# EAGLE library part DC-DC (library Smartcrutches)
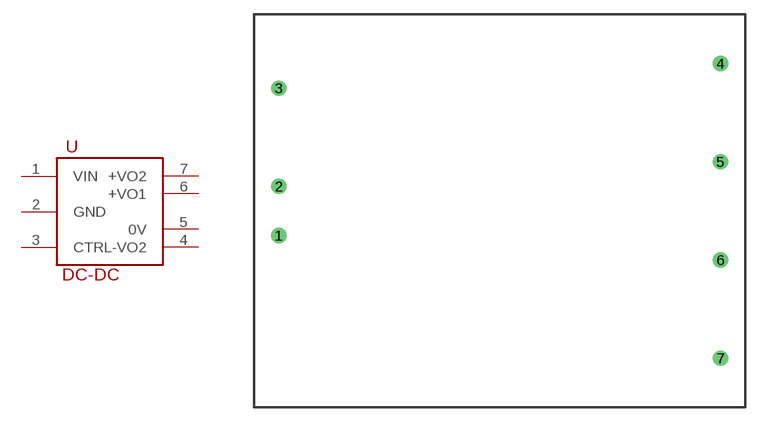
[diagram p5: symbol with the pads of DC-DCCONVERTER; footprint DC-DCCONVERTER]

Designator prefix -

## DC-DC  [DC-DCCONVERTER]
1  VIN
2  GND
3  CTRL
4  -VO2
5  0V
6  +VO1
7  +VO2

## Footprint DC-DCCONVERTER (pad centres in mm)
drill 1.05: 1 -22.86,-12.7; 2 -22.86,-7.62; 3 -22.86,2.54; 4 22.86,5.08; 5 22.86,-5.08; 6 22.86,-15.24; 7 22.86,-25.4